# Altium footprint library Mechanical.PcbLib: 7 footprints
Each footprint in its own frame and in the unit in brackets; x right, y up, seen from the top. Pads: shape width x height; smd on the part's side, far side on the other; paste and mask are expansions set on the pad; w line width, h text height; cw(c..) or ccw(c..) is an arc to the next point about the centre after c.
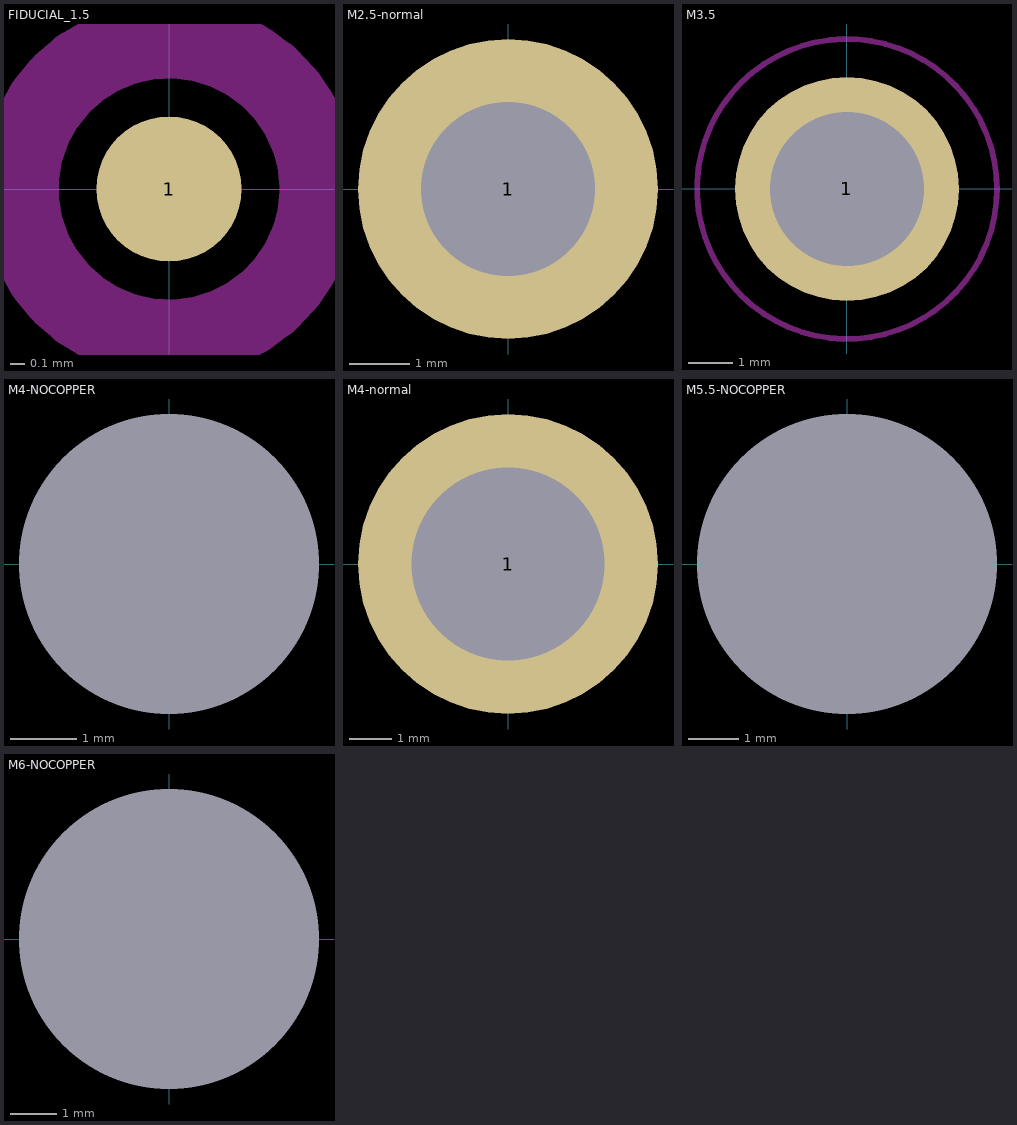
[diagram p0: the footprints below, top view; thin cyan lines are the x and y axes]

## FIDUCIAL_1.5 [mil]
pads (1):
  round 40 smd paste-60 mask+30: 1(0,0)
Top Layer keep-out:
  circle w21.65: c0,0 r41.34

## M2.5-normal [mm]
pads (1):
  round 5 hole 2.9: 1(0,0)

## M3.5 [mm]
pads (1):
  round 5.08 hole 3.5: 1(0,0)
Keep-Out Layer:
  circle w0.127: c0,0 r3.4

## M4-NOCOPPER [mm]
pads (1):
  round 0 hole 4.5 mask-99: ""(0,0)

## M4-normal [mm]
pads (1):
  round 7 hole 4.5: 1(0,0)

## M5.5-NOCOPPER [mm]
pads (1):
  round 0 hole 6 mask-99: ""(0,0)

## M6-NOCOPPER [mm]
pads (1):
  round 0 hole 6.5 mask-99: ""(0,0)